# Altium footprint library Diodes.PcbLib: 1 footprints
Each footprint in its own frame and in the unit in brackets; x right, y up, seen from the top. Pads: shape width x height; smd on the part's side, far side on the other; paste and mask are expansions set on the pad; w line width, h text height; cw(c..) or ccw(c..) is an arc to the next point about the centre after c.
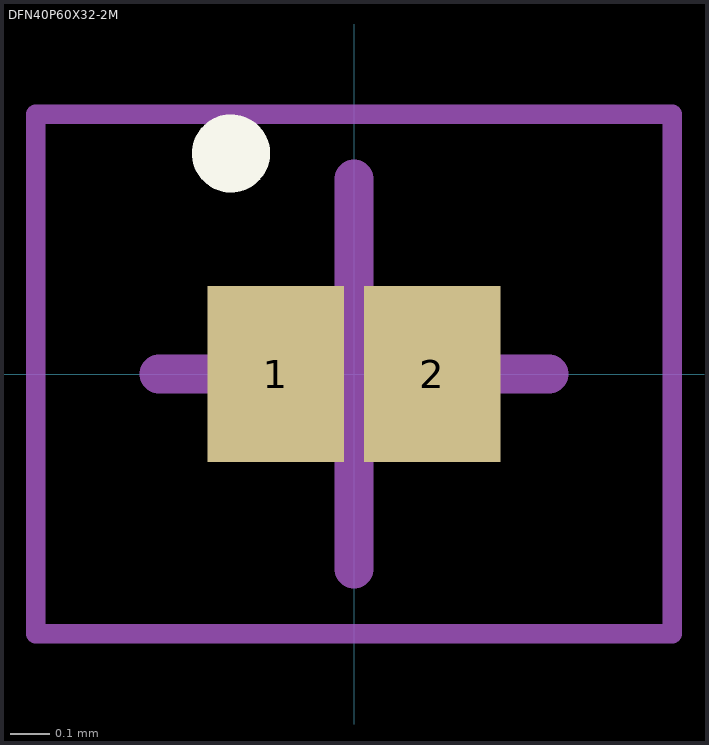
[diagram p0: the footprint, top view; thin cyan lines are the x and y axes]

## DFN40P60X32-2M [mm] "DFN, 2-Leads, Body 0.30x0.60mm, Pitch 0.40mm, IPC Low Density"
height 0.32
pads (2):
  rect 0.35x0.45 smd: 1(-0.2,0) 2(0.2,0)
Top Overlay:
  circle w0.1: c-0.315,0.565 r0.05
Mechanical 13:
  lines w0.1: -0.315,-0.165 -0.315,0.165 0.315,0.165 0.315,-0.165 -0.315,-0.165
Mechanical 15:
  lines w0.05: -0.815,-0.665 -0.815,0.665 0.815,0.665 0.815,-0.665 -0.815,-0.665
  lines w0.1: -0.5,0 0.5,0 ; 0,-0.5 0,0.5
3D body "DFN40P60X32-2M.step": height 0.32, standoff 0, extent -0.312,-0.162 0.312,0.162